# Altium footprint library Connectors - Modular Jacks With Magnetics.PcbLib: 3 footprints
Each footprint in its own frame and in the unit in brackets; x right, y up, seen from the top. Pads: shape width x height; smd on the part's side, far side on the other; paste and mask are expansions set on the pad; w line width, h text height; cw(c..) or ccw(c..) is an arc to the next point about the centre after c.
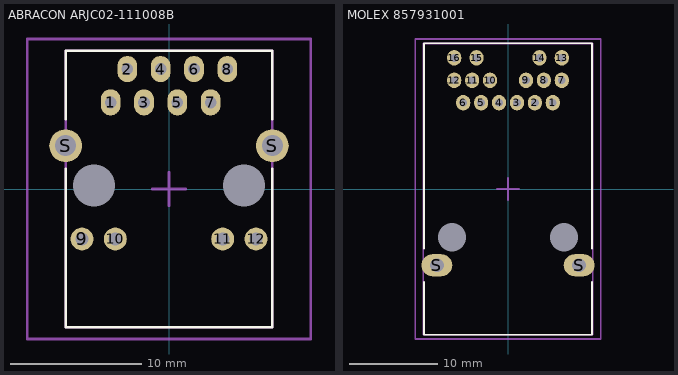
[diagram p0: the footprints below, top view; thin cyan lines are the x and y axes]

## ABRACON ARJC02-111008B [mm]
height 13.55
pads (16):
  oval 1.5x2 hole 0.9: 1(-4.445,6.6) 2(-3.175,9.14) 3(-1.905,6.6) 4(-0.635,9.14) 5(0.635,6.6) 6(1.905,9.14) 7(3.175,6.6) 8(4.445,9.14)
  round 1.75 hole 1.02: 9(-6.63,-3.81) 10(-4.09,-3.81) 11(4.09,-3.81) 12(6.63,-3.81)
  round 0 hole 3.2 unplated: M(-5.715,0.25) M(5.715,0.25)
  round 2.5 hole 1.6: S(-7.875,3.3) S(7.875,3.3)
Top Overlay:
  lines w0.2: -7.874,1.52 -7.874,-10.545 0,-10.545 7.874,-10.545 7.874,1.52 ; -7.874,5.33 -7.874,10.537 0,10.537 7.874,10.537 7.874,5.33
Mechanical 1:
  lines w0.2: -7.874,-10.545 7.874,-10.545 7.874,10.537 -7.874,10.537 -7.874,-10.545
Mechanical 15:
  lines w0.2: -1.27,0 1.27,0 ; 0,-1.27 0,1.27 ; -10.795,-11.43 10.795,-11.43 10.795,11.43 -10.795,11.43 -10.795,-11.43
3D body "Abracon ARJC02-111008B.STEP": height 16.07, standoff -3.7, extent -10.336,-10.555 10.336,10.546

## MOLEX 857931001 [mm]
height 15.05
pads (20):
  oval 1.6x1.75 hole 0.89: 1(5.075,9.78) 2(3.045,9.78) 3(1.015,9.78) 4(-1.015,9.78) 5(-3.045,9.78) 6(-5.075,9.78) 7(6.095,12.32) 8(4.065,12.32) 9(2.035,12.32) 10(-2.035,12.32) 11(-4.065,12.32) 12(-6.095,12.32) 13(6.095,14.86) 14(3.56,14.86) 15(-3.56,14.86) 16(-6.095,14.86)
  round 0 hole 3.2 unplated: M(-6.35,-5.46) M(6.35,-5.46)
  oval 3.5x2.5 hole 1.57: S(-8.065,-8.64) S(8.065,-8.64)
Top Overlay:
  lines w0.2: -9.525,-10.54 -9.525,-16.509 9.525,-16.509 9.525,-10.54 ; -9.525,-6.73 -9.525,16.511 9.525,16.511 9.525,-6.73
Mechanical 13:
  lines w0.2: -9.595,-16.509 9.595,-16.509 9.595,16.501 -9.595,16.501 -9.595,-16.509
Mechanical 15:
  lines w0.2: -1.27,0 1.27,0 ; 0,-1.27 0,1.27 ; -10.5,-17 10.5,-17 10.5,17 -10.5,17 -10.5,-17
3D body "Molex 857931020.STEP": height 15.05, standoff -3.7, extent -9.595,-16.509 9.595,16.501

## PCBComponent_1 [mm]